# EAGLE library part HC-FPC-05-09-8RLTAG (library CONNECTORs)
Clamshell 8P Double-sided contacts/up and down connection Surface Mount，Right Angle 0.5mm SMD,P=0.5mm,Surface Mount，Right Angle FFC/FPC Connectors ROHS
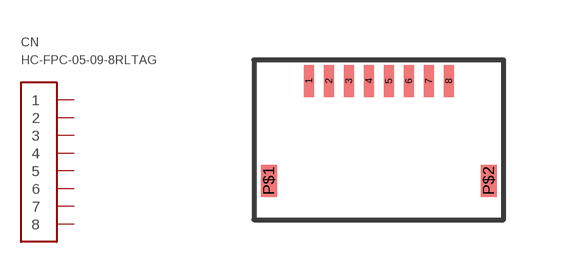
[diagram p95: symbol with the pads of HC-FPC-05-09-8RLTAG; footprint HC-FPC-05-09-8RLTAG]

Designator prefix CN

## HC-FPC-05-09-8RLTAG (HEIGHT: 2; LCSC: C5213749; PRICE_PER: 0.0644; VALUE: FFC 8P 0.5mm)  [HC-FPC-05-09-8RLTAG]
1  1
2  2
3  3
4  4
5  5
6  6
7  7
8  8

## Footprint HC-FPC-05-09-8RLTAG (pad centres in mm)
smd 0.25 x 0.8: 1 -1.75,1.475; 2 -1.25,1.475; 3 -0.75,1.475; 4 -0.25,1.475; 5 0.25,1.475; 6 0.75,1.475; 7 1.25,1.475; 8 1.75,1.475
smd 0.4 x 0.8: P$1 -2.75,-1.025; P$2 2.75,-1.025